# Altium schematic symbol library DRV2604LDGST.SchLib: 1 symbol
Pins are listed as number, name and electrical type; pins without a type are passive.

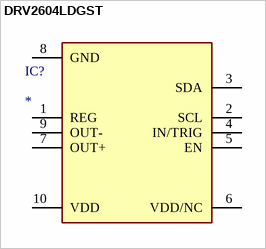
[diagram p0: symbol DRV2604LDGST]

## DRV2604LDGST
designator IC?
Integrated Circuit; Manufacturer_Name: Texas Instruments; Manufacturer_Part_Number: DRV2604LDGST; Datasheet Link: http://www.ti.com/lit/ds/symlink/tpd4s014.pdf; Height: 1.1mm; Mouser Part Number: 595-DRV2604LDGST; Mouser Price/Stock: https://www.mouser.co.uk/ProductDetail/Texas-Instruments/DRV2604LDGST?qs=asCBFxFfL1QBqzsrW4iNOA%3D%3D; Arrow Part Number: DRV2604LDGST; Arrow Price/Stock: https://www.arrow.com/en/products/drv2604ldgst/texas-instruments
footprint DRV2604LDGST
pins: 1 REG, 2 SCL, 3 SDA, 4 IN/TRIG, 5 EN, 6 VDD/NC, 7 OUT+, 8 GND, 9 OUT-, 10 VDD